# EAGLE library part MAX11270EUG+ (library EW_IC-ADC-DAC)
ADC Single Delta-Sigma 64ksps 24-Bit Serial _SPI, QSPI, Microwire_ 24-Pin TSSOP
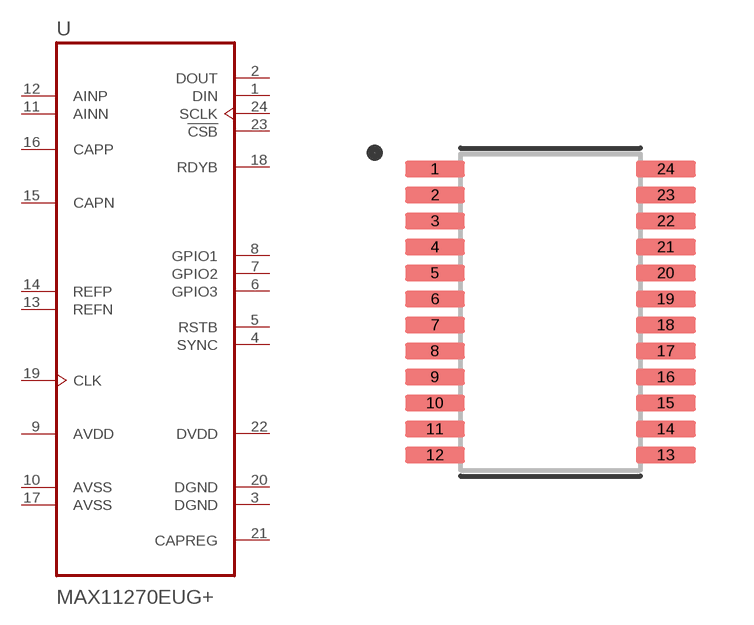
[diagram p3: symbol with the pads of SOP65P640X110-24N; footprint SOP65P640X110-24N]

Designator prefix U

## MAX11270EUG+ (AVAILABILITY: Unavailable; DESCRIPTION: ADC Single Delta-Sigma 64ksps 24-Bit Serial _SPI, QSPI, Microwire_ 24-Pin TSSOP Tube; MF: Maxim Integrated; MP: MAX11270EUG+; PACKAGE: TSSOP-24 Maxim; PRICE: None)  [SOP65P640X110-24N]
1  DIN  in
2  DOUT  out
3  DGND  pwr
4  SYNC
5  RSTB
6  GPIO3
7  GPIO2
8  GPIO1
9  AVDD  pwr
10  AVSS  pwr
11  AINN  in
12  AINP  in
13  REFN  in
14  REFP  in
15  CAPN
16  CAPP
17  AVSS
18  RDYB
19  CLK  in
20  DGND  pwr
21  CAPREG
22  DVDD  pwr
23  !CSB
24  SCLK  in

## Footprint SOP65P640X110-24N (pad centres in mm)
smd 1.5 x 0.41: 1 -2.885,3.575; 2 -2.885,2.925; 3 -2.885,2.275; 4 -2.885,1.625; 5 -2.885,0.975; 6 -2.885,0.325; 7 -2.885,-0.325; 8 -2.885,-0.975; 9 -2.885,-1.625; 10 -2.885,-2.275; 11 -2.885,-2.925; 12 -2.885,-3.575; 13 2.885,-3.575; 14 2.885,-2.925; 15 2.885,-2.275; 16 2.885,-1.625; 17 2.885,-0.975; 18 2.885,-0.325; 19 2.885,0.325; 20 2.885,0.975; 21 2.885,1.625; 22 2.885,2.275; 23 2.885,2.925; 24 2.885,3.575